# Altium footprint library INDDFN2_800X840X500L175X620N.PcbLib: 1 footprints
Each footprint in its own frame and in the unit in brackets; x right, y up, seen from the top. Pads: shape width x height; smd on the part's side, far side on the other; paste and mask are expansions set on the pad; w line width, h text height; cw(c..) or ccw(c..) is an arc to the next point about the centre after c.
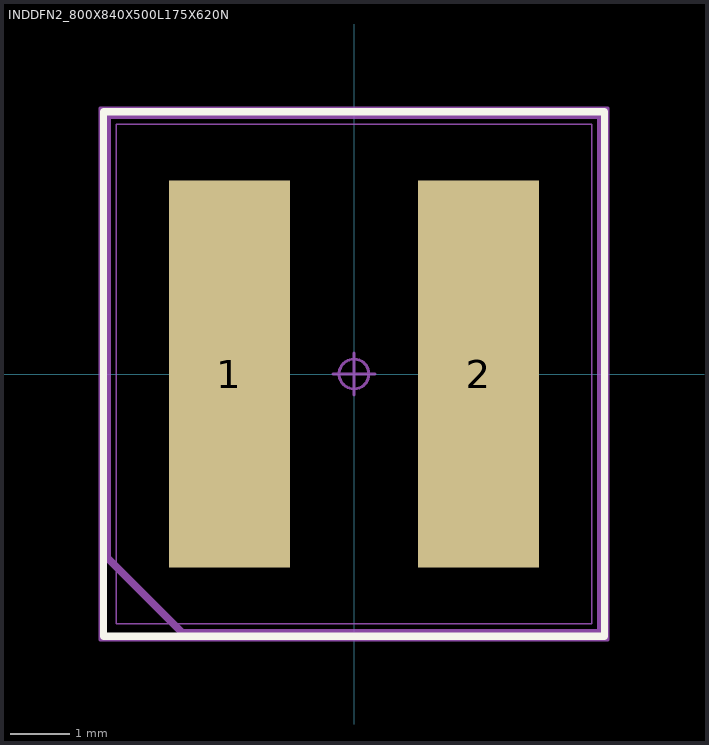
[diagram p0: the footprint, top view; thin cyan lines are the x and y axes]

## INDDFN2_800X840X500L175X620N [mm] "Inductor, Dual Flat No-Lead, 2 pin; 8.00 mm L X 8.40 mm W X 5.00 mm H Body"
height 5
pads (2):
  rect 2.035x6.51 smd: 1(-2.095,0) 2(2.095,0)
Top Overlay:
  lines w0.12: -4.21,-4.41 -4.21,4.41 4.21,4.41 4.21,-4.41 -4.21,-4.41
Mechanical 3:
  lines w0.12: -4.15,-3.089 -2.889,-4.35 4.15,-4.35 4.15,4.35 -4.15,4.35 -4.15,-3.089
Mechanical 5:
  lines w0.025: -4,-4.2 -4,4.2 4,4.2 4,-4.2 -4,-4.2 ; -2.97,-3.1 -1.22,-3.1 -1.22,3.1 -2.97,3.1 -2.97,-3.1 ; 1.22,-3.1 1.22,3.1 2.97,3.1 2.97,-3.1 1.22,-3.1
Mechanical 7:
  circle w0.05: c0,0 r0.25
  lines w0.05: -0.35,0 0.35,0 ; 0,-0.35 0,0.35 ; -4.27,-4.47 -4.27,4.47 4.27,4.47 4.27,-4.47 -4.27,-4.47
Mechanical 9:
  text "'.Designator'" at 0.398,-5.69 h1.02
3D body "INDDFN2_800X840X500L175X620.STEP": height 5, standoff 0, extent -4,-4.2 4,4.2
3D body: height 23.4, standoff -5, extent -4.27,-4.47 4.27,4.47